# EAGLE library part A3921KLPTR-T (library max7456)
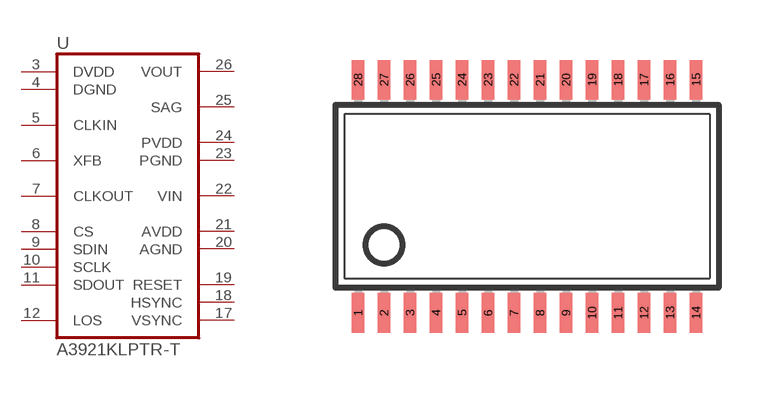
[diagram p1: symbol with the pads of TSSOP28; footprint TSSOP28]

Designator prefix -

## A3921KLPTR-T  [TSSOP28]
3  DVDD  pwr
4  DGND  pwr
5  CLKIN  oc
6  XFB  oc
7  CLKOUT  oc
8  CS
9  SDIN
10  SCLK
11  SDOUT
12  LOS
17  VSYNC
18  HSYNC
19  RESET
20  AGND  pwr
21  AVDD  pwr
22  VIN
23  PGND  pwr
24  PVDD  pwr
25  SAG
26  VOUT

## Footprint TSSOP28 (pad centres in mm)
Thin Shrink Small Outline Plastic 28
smd 0.305 x 0.991: 1 -4.225,-2.918; 2 -3.575,-2.918; 3 -2.925,-2.918; 4 -2.275,-2.918; 5 -1.625,-2.918; 6 -0.975,-2.918; 7 -0.325,-2.918; 8 0.325,-2.918; 9 0.975,-2.918; 10 1.625,-2.918; 11 2.275,-2.918; 12 2.925,-2.918; 13 3.575,-2.918; 14 4.225,-2.918; 15 4.225,2.918; 16 3.575,2.918; 17 2.925,2.918; 18 2.275,2.918; 19 1.625,2.918; 20 0.975,2.918; 21 0.325,2.918; 22 -0.325,2.918; 23 -0.975,2.918; 24 -1.625,2.918; 25 -2.275,2.918; 26 -2.925,2.918; 27 -3.575,2.918; 28 -4.225,2.918